# Altium schematic symbol library resistors.schlib: 15 symbols
Pins are listed as number, name and electrical type; pins without a type are passive.

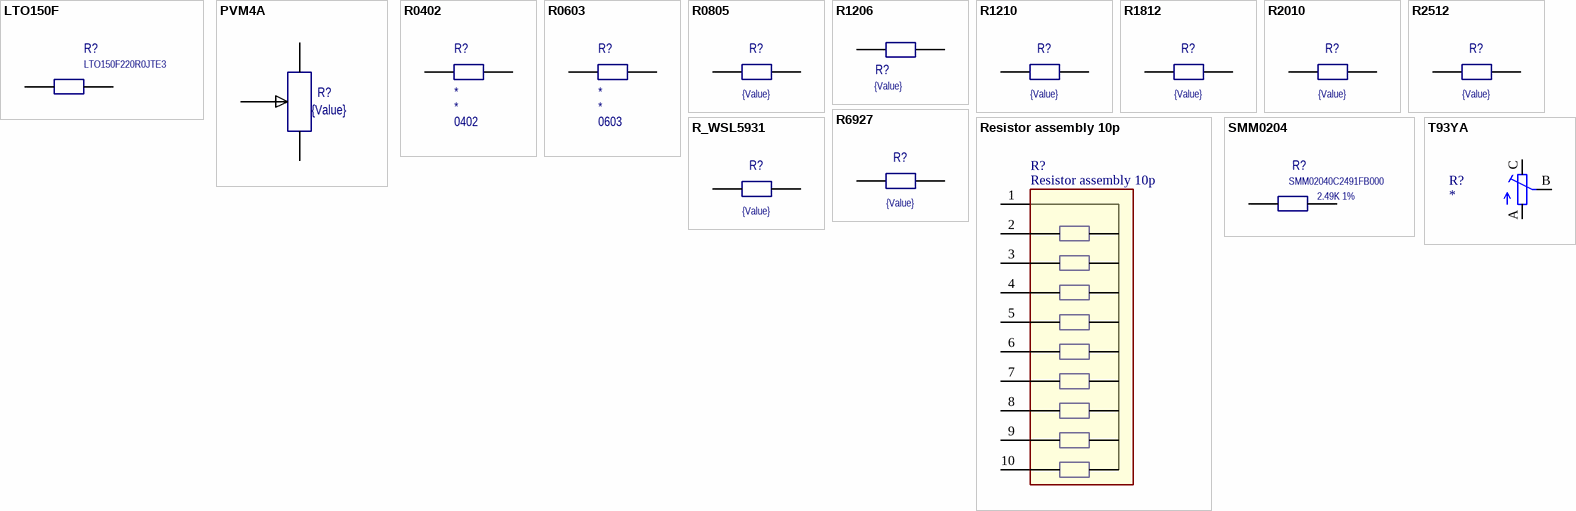
[diagram p0: symbols LTO150F to T93YA]

## LTO150F
designator R?, comment LTO150F220R0JTE3
footprint LTO150f
pins: 1, 2

## PVM4A
designator R?, comment {Value}
Trimmer
footprint PVM4A
pins: 1, 2, 3

## R0402
designator R?  Case/Package: 0402  (hidden comment: R0402)
Resistor; Part: *; Alternative Part: *; Tolerance: *; Value: *
footprint R_0402
pins: 1, 2

## R0603
designator R?  Case/Package: 0603  (hidden comment: R0603)
Resistor; Part: *; Alternative Part: *; Tolerance: *; Value: *
footprint R_0603
pins: 1, 2

## R0805
designator R?, comment {Value}
Resistor; Value: {Value}
footprint R_0805 (Resistor Pattern)
pins: 1, 2

## R1206
designator R?, comment {Value}
Resistor; Value: {Value}
footprint R_1206
pins: 1, 2

## R1210
designator R?, comment {Value}
Resistor; Value: {Value}
footprint R_1210
pins: 1, 2

## R1812
designator R?, comment {Value}
Resistor; Value: {Value}
footprint R_1812
pins: 1, 2

## R2010
designator R?, comment {Value}
Resistor; Value: {Value}
footprint R_2010
pins: 1, 2

## R2512
designator R?, comment {Value}
Resistor; Value: {Value}
footprint R_2512
pins: 1, 2

## R6927
designator R?, comment {Value}
Resistor; Value: {Value}
footprint R_6927
pins: 1, 2

## R_WSL5931
designator R?  value {Value}  (hidden comment: R_WSL5931)
Resistor
footprint R_WSL5931
pins: 1, 2

## Resistor assembly 10p
designator R?
footprint Resistor assembly 10p (RESISTOR NETWORK 10 pins)
pins: 1, 2, 3, 4, 5, 6, 7, 8, 9, 10

## SMM0204
designator R?, comment SMM02040C2491FB000  value 2.49K 1%
Resistor
footprint FP-SMM0204-IPC_C
pins: 1, 2

## T93YA
designator R?
3296W, / 0.5W, 1/2W PC Pins Through Hole Trimmer Potentiometer Cermet 21 Turn Top Adjustment; Value: *
footprint T93YA
pins: A, B, C